# EAGLE library part IMS-G332 (library Transputers)
G332 Colour Video Controller INMOS Colour video controller Versions 85, 10, 11 and 135, Clock 85, 100, 110 and 135 Mhz respectively. Source: The Graphics Databook 1990. INMOS/SGS-Thomson Arto Kyyhkynen, artoky@dlc.fi
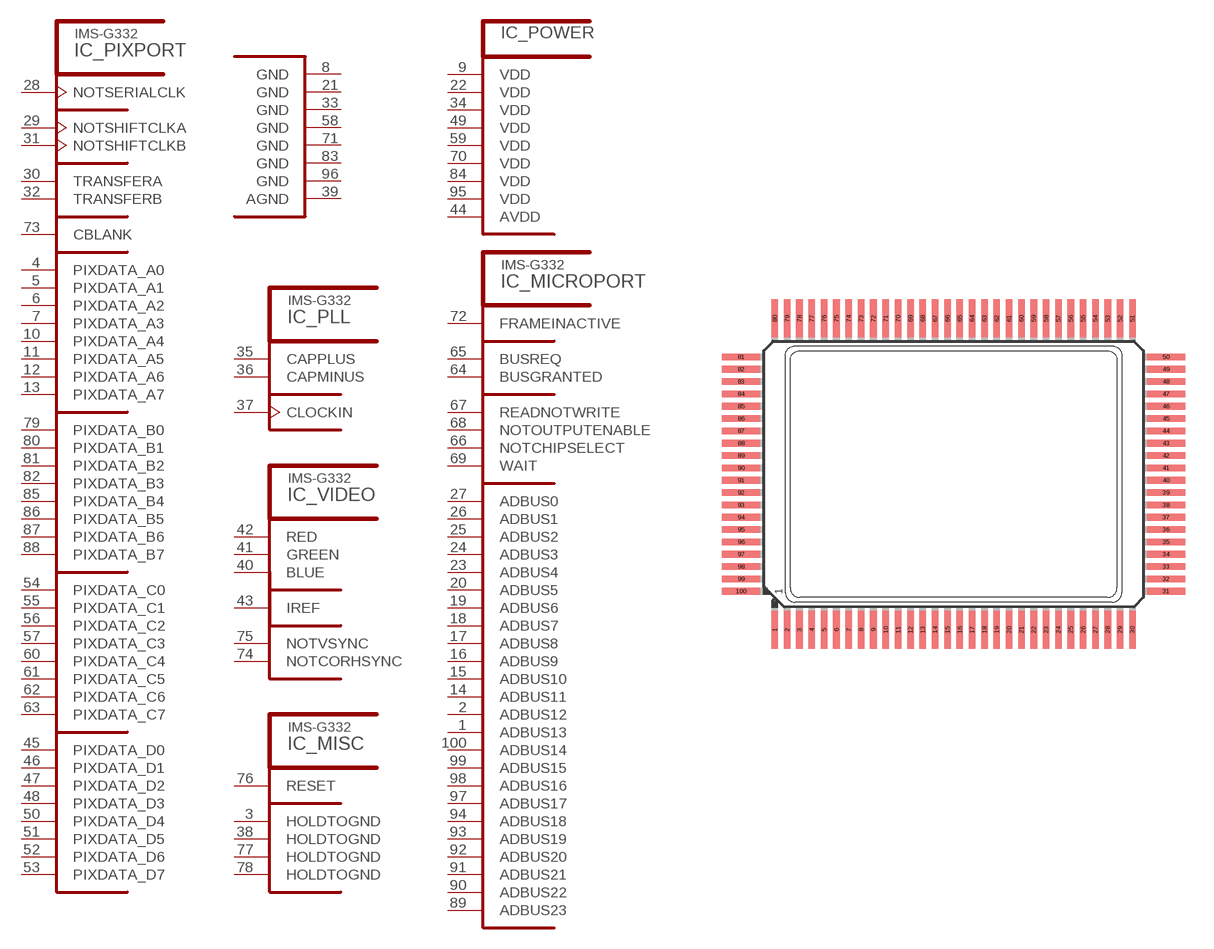
[diagram p26: symbol with the pads of CQFP100; footprint CQFP100]

Designator prefix IC; gates _MICROPORT=G332_MICROPORT _PIXPORT=G332_PIXPORT _PLL=G332_PLL _VIDEO=G332_VIDEO _POWER=G332_SUP _MISC=G332_MISC

## IMS-G332S10F, IMS-G332S11F, IMS-G332S135F, IMS-G332S85F  [CQFP100]
1  _MICROPORT:ADBUS13
2  _MICROPORT:ADBUS12
3  _MISC:HOLDTOGND  pas
4  _PIXPORT:PIXDATA_A0  in
5  _PIXPORT:PIXDATA_A1  in
6  _PIXPORT:PIXDATA_A2  in
7  _PIXPORT:PIXDATA_A3  in
8  _POWER:GND  pwr
9  _POWER:VDD  pwr
10  _PIXPORT:PIXDATA_A4  in
11  _PIXPORT:PIXDATA_A5  in
12  _PIXPORT:PIXDATA_A6  in
13  _PIXPORT:PIXDATA_A7  in
14  _MICROPORT:ADBUS11
15  _MICROPORT:ADBUS10
16  _MICROPORT:ADBUS9
17  _MICROPORT:ADBUS8
18  _MICROPORT:ADBUS7
19  _MICROPORT:ADBUS6
20  _MICROPORT:ADBUS5
21  _POWER:GND  pwr
22  _POWER:VDD  pwr
23  _MICROPORT:ADBUS4
24  _MICROPORT:ADBUS3
25  _MICROPORT:ADBUS2
26  _MICROPORT:ADBUS1
27  _MICROPORT:ADBUS0
28  _PIXPORT:NOTSERIALCLK  out
29  _PIXPORT:NOTSHIFTCLKA  out
30  _PIXPORT:TRANSFERA  out
31  _PIXPORT:NOTSHIFTCLKB  out
32  _PIXPORT:TRANSFERB  out
33  _POWER:GND  pwr
34  _POWER:VDD  pwr
35  _PLL:CAPPLUS  pas
36  _PLL:CAPMINUS  pas
37  _PLL:CLOCKIN  in
38  _MISC:HOLDTOGND  pas
39  _POWER:AGND  pwr
40  _VIDEO:BLUE  out
41  _VIDEO:GREEN  out
42  _VIDEO:RED  out
43  _VIDEO:IREF  in
44  _POWER:AVDD  pwr
45  _PIXPORT:PIXDATA_D0  in
46  _PIXPORT:PIXDATA_D1  in
47  _PIXPORT:PIXDATA_D2  in
48  _PIXPORT:PIXDATA_D3  in
49  _POWER:VDD  pwr
50  _PIXPORT:PIXDATA_D4  in
51  _PIXPORT:PIXDATA_D5  in
52  _PIXPORT:PIXDATA_D6  in
53  _PIXPORT:PIXDATA_D7  in
54  _PIXPORT:PIXDATA_C0  in
55  _PIXPORT:PIXDATA_C1  in
56  _PIXPORT:PIXDATA_C2  in
57  _PIXPORT:PIXDATA_C3  in
58  _POWER:GND  pwr
59  _POWER:VDD  pwr
60  _PIXPORT:PIXDATA_C4  in
61  _PIXPORT:PIXDATA_C5  in
62  _PIXPORT:PIXDATA_C6  in
63  _PIXPORT:PIXDATA_C7  in
64  _MICROPORT:BUSGRANTED  in
65  _MICROPORT:BUSREQ  out
66  _MICROPORT:NOTCHIPSELECT  in
67  _MICROPORT:READNOTWRITE  in
68  _MICROPORT:NOTOUTPUTENABLE  in
69  _MICROPORT:WAIT  out
70  _POWER:VDD  pwr
71  _POWER:GND  pwr
72  _MICROPORT:FRAMEINACTIVE  out
73  _PIXPORT:CBLANK
74  _VIDEO:NOTCORHSYNC
75  _VIDEO:NOTVSYNC
76  _MISC:RESET  in
77  _MISC:HOLDTOGND  pas
78  _MISC:HOLDTOGND  pas
79  _PIXPORT:PIXDATA_B0  in
80  _PIXPORT:PIXDATA_B1  in
81  _PIXPORT:PIXDATA_B2  in
82  _PIXPORT:PIXDATA_B3  in
83  _POWER:GND  pwr
84  _POWER:VDD  pwr
85  _PIXPORT:PIXDATA_B4  in
86  _PIXPORT:PIXDATA_B5  in
87  _PIXPORT:PIXDATA_B6  in
88  _PIXPORT:PIXDATA_B7  in
89  _MICROPORT:ADBUS23
90  _MICROPORT:ADBUS22
91  _MICROPORT:ADBUS21
92  _MICROPORT:ADBUS20
93  _MICROPORT:ADBUS19
94  _MICROPORT:ADBUS18
95  _POWER:VDD  pwr
96  _POWER:GND  pwr
97  _MICROPORT:ADBUS17
98  _MICROPORT:ADBUS16
99  _MICROPORT:ADBUS15
100  _MICROPORT:ADBUS14

## Footprint CQFP100 (pad centres in mm)
Cavity up Ceramic Quad Flat Pack INMOS/ST-Microelectronics
smd 0.35 x 2: 1 -9.425,-8.2; 2 -8.775,-8.2; 3 -8.125,-8.2; 4 -7.475,-8.2; 5 -6.825,-8.2; 6 -6.175,-8.2; 7 -5.525,-8.2; 8 -4.875,-8.2; 9 -4.225,-8.2; 10 -3.575,-8.2; 11 -2.925,-8.2; 12 -2.275,-8.2; 13 -1.625,-8.2; 14 -0.975,-8.2; 15 -0.325,-8.2; 16 0.325,-8.2; 17 0.975,-8.2; 18 1.625,-8.2; 19 2.275,-8.2; 20 2.925,-8.2; 21 3.575,-8.2; 22 4.225,-8.2; 23 4.875,-8.2; 24 5.525,-8.2; 25 6.175,-8.2; 26 6.825,-8.2; 27 7.475,-8.2; 28 8.125,-8.2; 29 8.775,-8.2; 30 9.425,-8.2; 51 9.425,8.2; 52 8.775,8.2; 53 8.125,8.2; 54 7.475,8.2; 55 6.825,8.2; 56 6.175,8.2; 57 5.525,8.2; 58 4.875,8.2; 59 4.225,8.2; 60 3.575,8.2; 61 2.925,8.2; 62 2.275,8.2; 63 1.625,8.2; 64 0.975,8.2; 65 0.325,8.2; 66 -0.325,8.2; 67 -0.975,8.2; 68 -1.625,8.2; 69 -2.275,8.2; 70 -2.925,8.2; 71 -3.575,8.2; 72 -4.225,8.2; 73 -4.875,8.2; 74 -5.525,8.2; 75 -6.175,8.2; 76 -6.825,8.2; 77 -7.475,8.2; 78 -8.125,8.2; 79 -8.775,8.2; 80 -9.425,8.2
smd 2 x 0.35: 31 11.2,-6.175; 32 11.2,-5.525; 33 11.2,-4.875; 34 11.2,-4.225; 35 11.2,-3.575; 36 11.2,-2.925; 37 11.2,-2.275; 38 11.2,-1.625; 39 11.2,-0.975; 40 11.2,-0.325; 41 11.2,0.325; 42 11.2,0.975; 43 11.2,1.625; 44 11.2,2.275; 45 11.2,2.925; 46 11.2,3.575; 47 11.2,4.225; 48 11.2,4.875; 49 11.2,5.525; 50 11.2,6.175; 81 -11.2,6.175; 82 -11.2,5.525; 83 -11.2,4.875; 84 -11.2,4.225; 85 -11.2,3.575; 86 -11.2,2.925; 87 -11.2,2.275; 88 -11.2,1.625; 89 -11.2,0.975; 90 -11.2,0.325; 91 -11.2,-0.325; 92 -11.2,-0.975; 93 -11.2,-1.625; 94 -11.2,-2.275; 95 -11.2,-2.925; 96 -11.2,-3.575; 97 -11.2,-4.225; 98 -11.2,-4.875; 99 -11.2,-5.525; 100 -11.2,-6.175